# Altium schematic symbol library SCH - CONNECTORS - SAMTEC -TSW-103-07-G-S.SchLib: 1 symbol
Pins are listed as number, name and electrical type; pins without a type are passive.

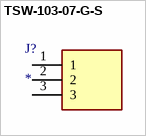
[diagram p0: symbol TSW-103-07-G-S]

## TSW-103-07-G-S
designator J?
Connector; Manufacturer_Name: SAMTEC; Manufacturer_Part_Number: TSW-103-07-G-S; Datasheet Link: http://suddendocs.samtec.com/prints/tsw-xxx-xx-xxx-x-xx-xxx-mkt.pdf; Mouser Part Number: 200-TSW10307GS; Mouser Price/Stock: https://www.mouser.co.uk/ProductDetail/Samtec/TSW-103-07-G-S?qs=iT52DjcXudtntd1jApTIAw%3D%3D; Arrow Part Number: TSW-103-07-G-S; Arrow Price/Stock: https://www.arrow.com/en/products/tsw-103-07-g-s/samtec?utm_currency=USD&region=europe
footprint TSW-103-XX-YY-S
pins: 1, 2, 3